# EAGLE library part SD_CARD_SLOT (library IntegratedLib)
Slot de cartao uSD (sem mecanismo de ejecao)
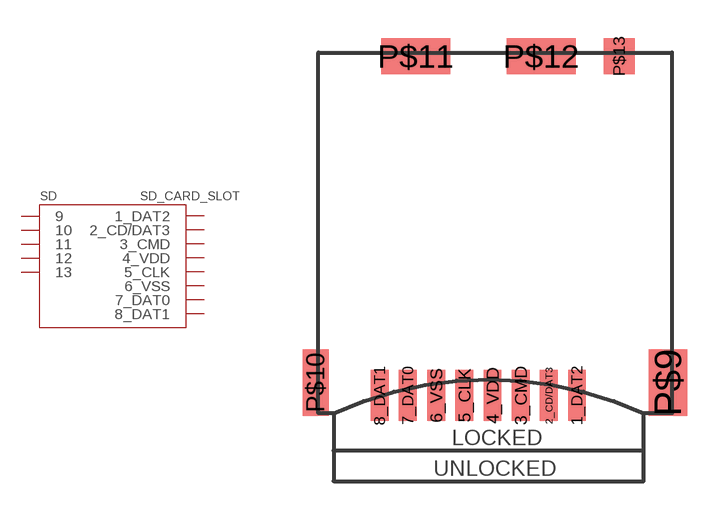
[diagram p37: symbol with the pads of SD-CARD-SLOT; footprint SD-CARD-SLOT]

Designator prefix SD

## SD_CARD_SLOT (FABRICANTE: HIROSE; PARTNUMBER: DM3CS-SF; TIPO: SOQUETE)  [SD-CARD-SLOT]
1_DAT2  1_DAT2
2_CD/DAT3  2_CD/DAT3
3_CMD  3_CMD
4_VDD  4_VDD
5_CLK  5_CLK
6_VSS  6_VSS
7_DAT0  7_DAT0
8_DAT1  8_DAT1
P$9  9
P$10  10
P$11  11
P$12  12
P$13  13

## Footprint SD-CARD-SLOT (pad centres in mm)
smd 0.7 x 2: 1_DAT2 3.2,-6.35; 2_CD/DAT3 2.1,-6.35; 3_CMD 1,-6.35; 4_VDD -0.1,-6.35; 5_CLK -1.2,-6.35; 6_VSS -2.3,-6.35; 7_DAT0 -3.4,-6.35; 8_DAT1 -4.5,-6.35
smd 1.5 x 2.6: P$9 6.75,-5.85
smd 1 x 2.6: P$10 -7,-5.85
smd 2.7 x 1.4: P$11 -3.1,6.9; P$12 1.8,6.9
smd 1.2 x 1.4: P$13 4.85,6.9